# Altium schematic symbol library devices.SchLib: 8 symbols
Pins are listed as number, name and electrical type; pins without a type are passive.

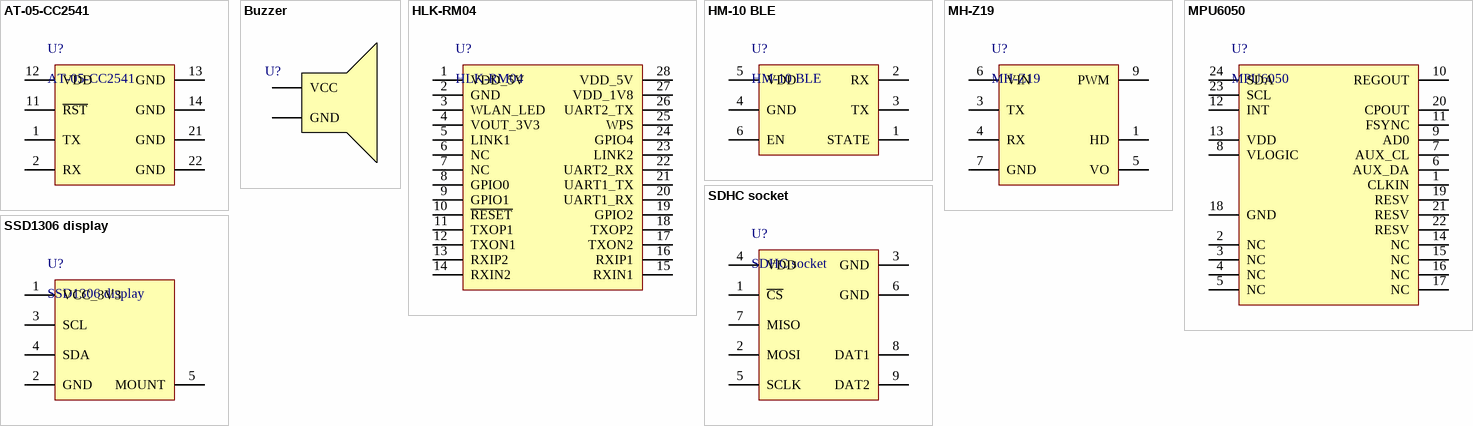
[diagram p0: symbols AT-05-CC2541 to SSD1306 display]

## AT-05-CC2541
designator U?
BLE-UART bridge
footprint AT-05-CC2541
pins: 0 EP hidden "Exposed Paddle. The 32-lead LFCSP_VQ has an exposed paddle that must be left unconnected.", 1 TX, 2 RX, 11 ~{RST}, 12 VDD, 13 GND, 14 GND, 21 GND, 22 GND

## Buzzer
designator U?
Buzzer
footprint HDR_SMD_1X2_1.50 (Pitch 1.50)
footprint PLS-2 2.54 (Pitch 2.54)
footprint BUZZER 12mm
footprint PLS-2R 2.54 (Pitch 2.54)
pins: 1 GND, 2 VCC

## HLK-RM04
designator U?
WIFI-UART bridge
footprint HLK-RM04
pins: 0 EP hidden "Exposed Paddle. The 32-lead LFCSP_VQ has an exposed paddle that must be left unconnected.", 1 VDD_5V, 2 GND, 3 WLAN_LED, 4 VOUT_3V3, 5 LINK1, 6 NC, 7 NC, 8 GPIO0, 9 GPIO1, 10 ~{RESET}, 11 TXOP1, 12 TXON1, 13 RXIP2, 14 RXIN2, 15 RXIN1, 16 RXIP1, 17 TXON2, 18 TXOP2, 19 GPIO2, 20 UART1_RX, 21 UART1_TX, 22 UART2_RX, 23 LINK2, 24 GPIO4, 25 WPS, 26 UART2_TX, 27 VDD_1V8, 28 VDD_5V

## HM-10 BLE
designator U?
BLE-UART bridge
footprint HM-10
pins: 0 EP hidden "Exposed Paddle. The 32-lead LFCSP_VQ has an exposed paddle that must be left unconnected.", 1 STATE, 2 RX, 3 TX, 4 GND, 5 VDD, 6 EN

## MH-Z19
designator U?
CO2 sensor
footprint MH-Z19
pins: 0 EP hidden "Exposed Paddle. The 32-lead LFCSP_VQ has an exposed paddle that must be left unconnected.", 1 HD, 3 TX, 4 RX, 5 VO, 6 VIN, 7 GND, 9 PWM

## MPU6050
designator U?
footprint MPU6050
pins: 0 EP hidden "Exposed Paddle. The 32-lead LFCSP_VQ has an exposed paddle that must be left unconnected.", 1 CLKIN, 2 NC, 3 NC, 4 NC, 5 NC, 6 AUX_DA, 7 AUX_CL, 8 VLOGIC, 9 AD0, 10 REGOUT, 11 FSYNC, 12 INT, 13 VDD, 14 NC, 15 NC, 16 NC, 17 NC, 18 GND, 19 RESV, 20 CPOUT, 21 RESV, 22 RESV, 23 SCL, 24 SDA

## SDHC socket
designator U?
footprint SDHC socket
pins: 0 EP hidden "Exposed Paddle. The 32-lead LFCSP_VQ has an exposed paddle that must be left unconnected.", 1 ~{CS}, 2 MOSI, 3 GND, 4 VDD, 5 SCLK, 6 GND, 7 MISO, 8 DAT1, 9 DAT2

## SSD1306 display
designator U?
footprint SSD1306_DISPLAY_0.96
footprint SSD1306_DISPLAY_1.30
pins: 0 EP hidden "Exposed Paddle. The 32-lead LFCSP_VQ has an exposed paddle that must be left unconnected.", 1 VCC_3V3, 2 GND, 3 SCL, 4 SDA, 5 MOUNT